# EAGLE library part LT3092 (library linear-technology)
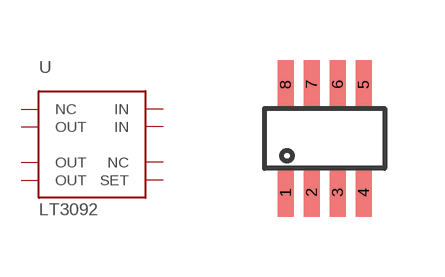
[diagram p26: symbol with the pads of TSOT23; footprint TSOT23]

Designator prefix -

## LT3092  [TSOT23]
1  NC
2  OUT
3  OUT
4  OUT
5  SET
6  NC
7  IN
8  IN

## Footprint TSOT23 (pad centres in mm)
smd 0.4 x 1.22: 1 -0.975,-1.35; 2 -0.325,-1.35; 3 0.325,-1.35; 4 0.975,-1.35; 5 0.975,1.35; 6 0.325,1.35; 7 -0.325,1.35; 8 -0.975,1.35